# Altium footprint library rect_GBPC-W.PcbLib: 1 footprints
Each footprint in its own frame and in the unit in brackets; x right, y up, seen from the top. Pads: shape width x height; smd on the part's side, far side on the other; paste and mask are expansions set on the pad; w line width, h text height; cw(c..) or ccw(c..) is an arc to the next point about the centre after c.
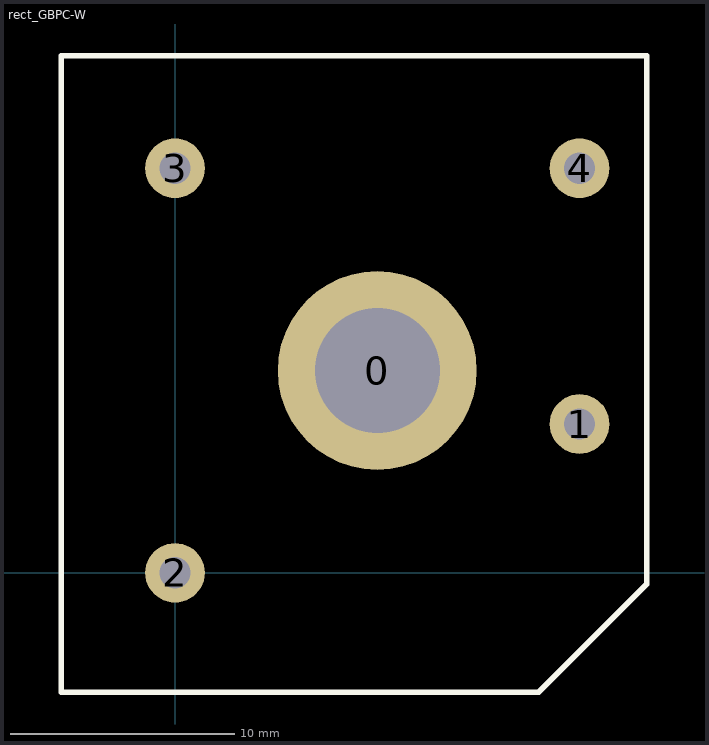
[diagram p0: the footprint, top view; thin cyan lines are the x and y axes]

## rect_GBPC-W [mil]
pads (5):
  round 350 hole 220: 0(356,356)
  round 105 hole 55: 1(712,262) 2(0,0) 3(0,712) 4(712,712)
Top Overlay:
  lines w10: -200,-210 -200,910 830,910 830,-20 640,-210 -200,-210
3D body: height 300, standoff 0, extent -200,-210 830,910